# EAGLE library part ARDUINO_PRO_MINI (library nrf_can)
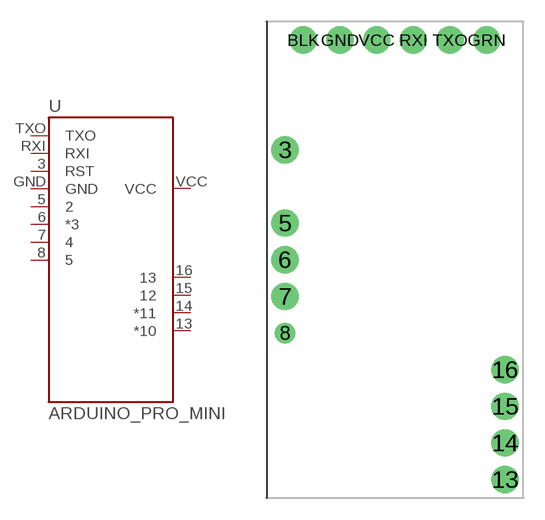
[diagram p0: symbol with the pads of ARDUINO_PRO_MINI; footprint ARDUINO_PRO_MINI]

Designator prefix -

## ARDUINO_PRO_MININRF24L01  [ARDUINO_PRO_MINI]
3  RST
5  2
6  *3
7  4
8  5
13  *10
14  *11
15  12
16  13
GND  GND
RXI  RXI
TXO  TXO
VCC  VCC

## Footprint ARDUINO_PRO_MINI (pad centres in mm)
drill 1.016 pad 1.88: 3 -7.62,7.62; 5 -7.62,2.54; 6 -7.62,0; 7 -7.62,-2.54; 13 7.62,-15.24; 14 7.62,-12.7; 15 7.62,-10.16; 16 7.62,-7.62; BLK -6.35,15.24; GND -3.81,15.24; GRN 6.35,15.24; RXI 1.27,15.24; TXO 3.81,15.24; VCC -1.27,15.24
drill 0.9: 8 -7.62,-5.08